# EAGLE library part BUF634P (library ic)
Texas Instruments BUF634P Op Amp, 180MHz, 8-Pin PDIP Source: Datasheet <http://componentsearchengine.com/Datasheets/3/BUF634P.pdf>
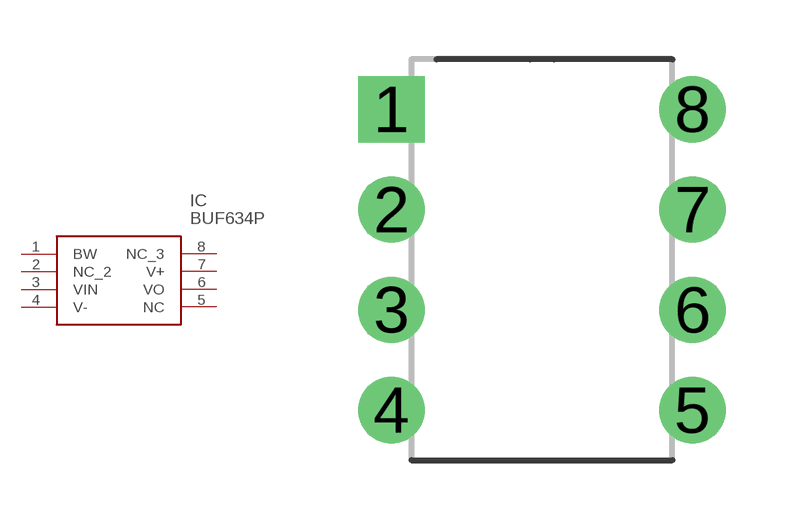
[diagram p0: symbol with the pads of DIP254P762X508-8; footprint DIP254P762X508-8]

Designator prefix IC

## BUF634P (Arrow_Part_Number: BUF634P; Arrow_Price-Stock: https://www.arrow.com/en/products/buf634p/texas-instruments; Description: Texas Instruments BUF634P Op Amp, 180MHz, 8-Pin PDIP; Height: mm; Manufacturer_Name: Texas Instruments; Manufacturer_Part_Number: BUF634P; RS_Part_Number: 6604217P; RS_Price-Stock: http://uk.rs-online.com/web/p/products/6604217P)  [DIP254P762X508-8]
1  BW
2  NC_2
3  VIN
4  V-
5  NC  nc
6  VO
7  V+
8  NC_3

## Footprint DIP254P762X508-8 (pad centres in mm)
DIP254P762X508-8
drill 1.118 pad 1.676 square: 1 -7.62,7.62
drill 1.118 pad 1.676: 2 -7.62,5.08; 3 -7.62,2.54; 4 -7.62,0; 5 0,0; 6 0,2.54; 7 0,5.08; 8 0,7.62